# Altium schematic symbol library 2019-10-20_20-01-06.SchLib: 2 symbols
Pins are listed as number, name and electrical type; pins without a type are passive.

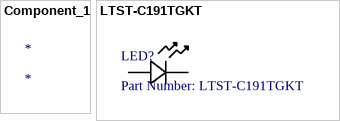
[diagram p0: symbols Component_1 to LTST-C191TGKT]

## Component_1
designator *

## LTST-C191TGKT
designator LED?, comment Part Number: LTST-C191TGKT
No Description Available; Built_By: EMA_Justin; Vendor: Lite-On; Type: DEV; Copyright: Copyright (C) 2016 Accelerated Designs. All rights reserved; Manufacturer_Part_Number: LTST-C191TGKT; RefDes: RefDes; Value: Value
footprint LED_LTW-C193TS5
pins: 1, 2